# EAGLE library part MICRO-SD (library micro-sd)
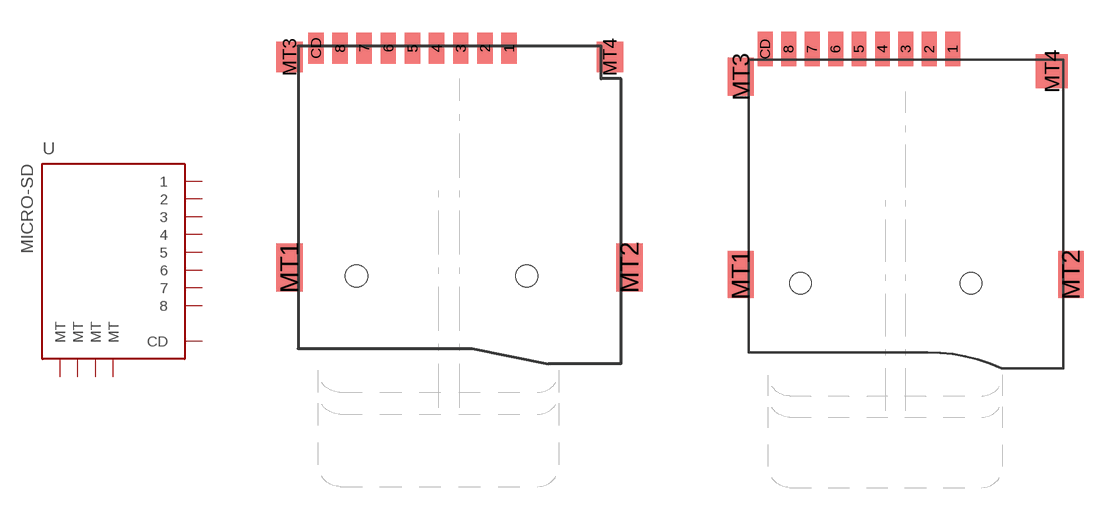
[diagram p0: symbol with the pads of TF-MICRO-SD_PP; footprints TF-MICRO-SD_PP, TF-MICRO-SD_PP3]

Designator prefix -

## MICRO-SD  [TF-MICRO-SD_PP]
1  1
2  2
3  3
4  4
5  5
6  6
7  7
8  8
CD  CD
MT1  MT  pwr
MT2  MT  pwr
MT3  MT  pwr
MT4  MT  pwr

## MICRO-SD3  [TF-MICRO-SD_PP3]
Pads as for TF-MICRO-SD_PP

## Footprint TF-MICRO-SD_PP (pad centres in mm)
smd 0.7 x 1.4: 1 3.2,10.4; 2 2.1,10.4; 3 1,10.4; 4 -0.1,10.4; 5 -1.2,10.4; 6 -2.3,10.4; 7 -3.4,10.4; 8 -4.5,10.4; CD -5.6,10.4
smd 1.2 x 2.2: MT1 -6.8,0.4; MT2 8.7,0.4
smd 1.2 x 1.4: MT3 -6.8,10; MT4 7.8,10
hole 1 at -3.75,0
hole 1 at 4,0

## Footprint TF-MICRO-SD_PP3 (pad centres in mm)
T-FLASH TFWF1-EBXX-1X0X
smd 0.7 x 1.6: 1 2.2,11; 2 1.1,11; 3 0,11; 4 -1.1,11; 5 -2.2,11; 6 -3.3,11; 7 -4.4,11; 8 -5.5,11; CD -6.6,11
smd 1.2 x 2.2: MT1 -7.75,0.4; MT2 7.75,0.4
smd 1.2 x 1.8: MT3 -7.75,9.7
smd 1.5 x 1.6: MT4 6.85,9.95
hole 1 at -4.95,0
hole 1 at 3.05,0